# Altium schematic symbol library SSW-106-X-X-S-002.SchLib: 1 symbol
Pins are listed as number, name and electrical type; pins without a type are passive.

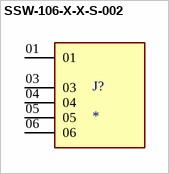
[diagram p0: symbol SSW-106-X-X-S-002]

## SSW-106-X-X-S-002
designator J?
6 Position Receptacle Connector 0.100 (2.54mm) Through Hole Tin; MF: Samtec; MP: SSW-106-01-T-S-002; Purchase-URL: https://pricing.snapeda.com/search/part/SSW-106-01-T-S-002/?ref=eda; Package: None; Check_prices: https://www.snapeda.com/parts/SSW-106-01-T-S-002/Samtec/view-part/?ref=eda; Value: *; SnapEDA_Link: https://www.snapeda.com/parts/SSW-106-01-T-S-002/Samtec/view-part/?ref=snap; Digi-Key_Part_Number: 612-SSW-106-01-T-S-002-ND
footprint SAMTEC_SSW-106-X-X-S-002
pins: 01, 03, 04, 05, 06